# Altium footprint library TACTILE_SWITCH_TYPE3.PcbLib: 1 footprints
Each footprint in its own frame and in the unit in brackets; x right, y up, seen from the top. Pads: shape width x height; smd on the part's side, far side on the other; paste and mask are expansions set on the pad; w line width, h text height; cw(c..) or ccw(c..) is an arc to the next point about the centre after c.
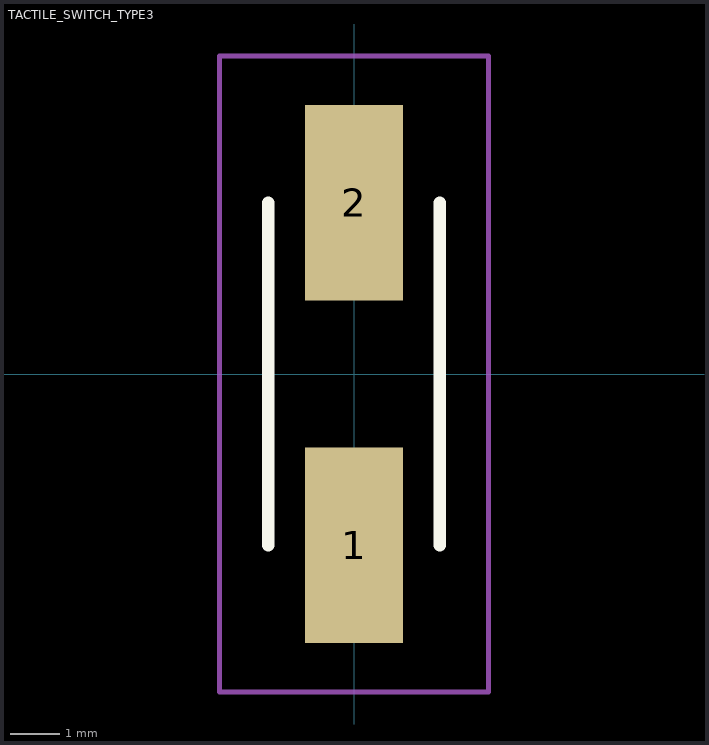
[diagram p0: the footprint, top view; thin cyan lines are the x and y axes]

## TACTILE_SWITCH_TYPE3 [mm]
pads (2):
  rect 2x4 smd: 1(0,-3.5) 2(0,3.5)
Top Overlay:
  lines w0.25: -1.75,-3.5 -1.75,3.5 ; 1.75,-3.5 1.75,3.5
Top Courtyard:
  lines w0.1: -2.75,-6.5 0.05,-6.5 2.75,-6.5 2.75,6.502 -2.75,6.502 -2.75,-6.5
3D body "c-1437566-4-c-3d.stp": height 4.4, standoff -0.02, extent -1.75,-5.01 1.75,4.959